# Altium schematic symbol library SCH - MCU - ATSAM - MICROCHIP ATSAME70Q19A-CFN UFBGA144.SchLib: 1 symbol
Pins are listed as number, name and electrical type; pins without a type are passive.

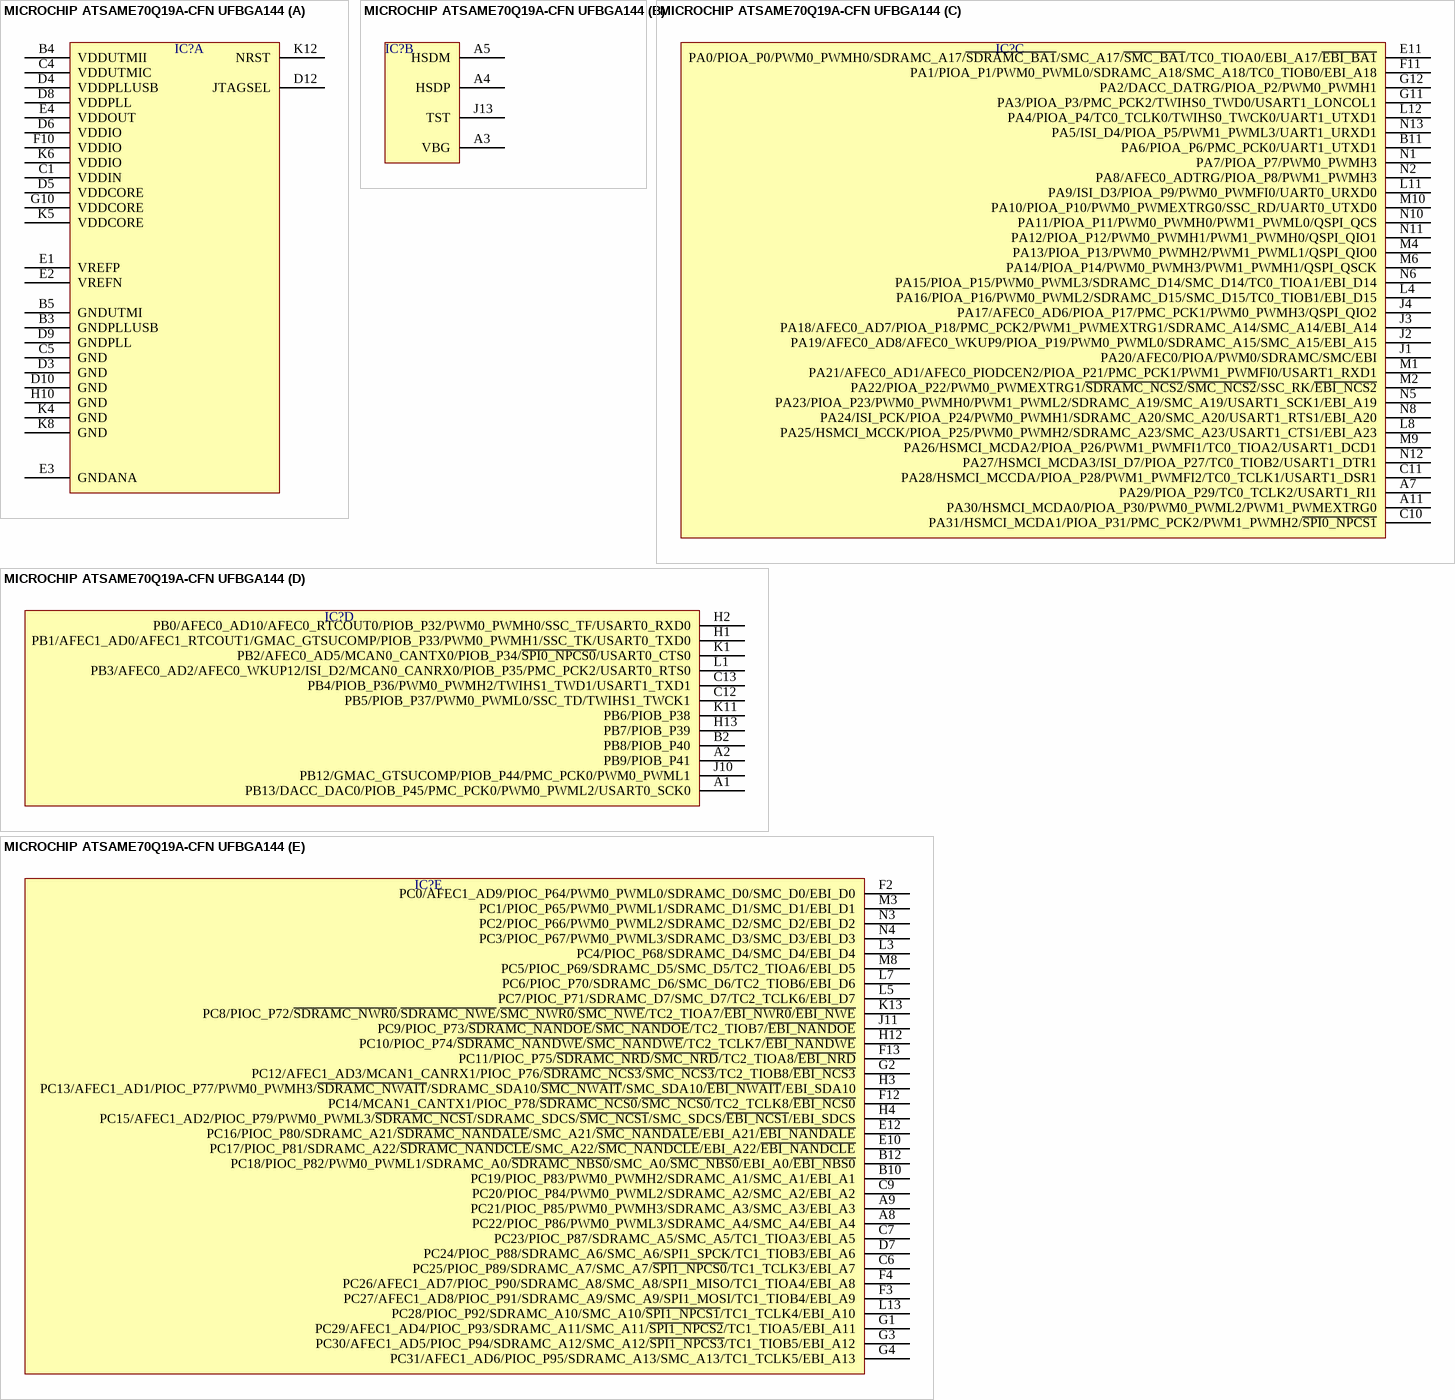
[diagram p0: symbol MICROCHIP ATSAME70Q19A-CFN UFBGA144]

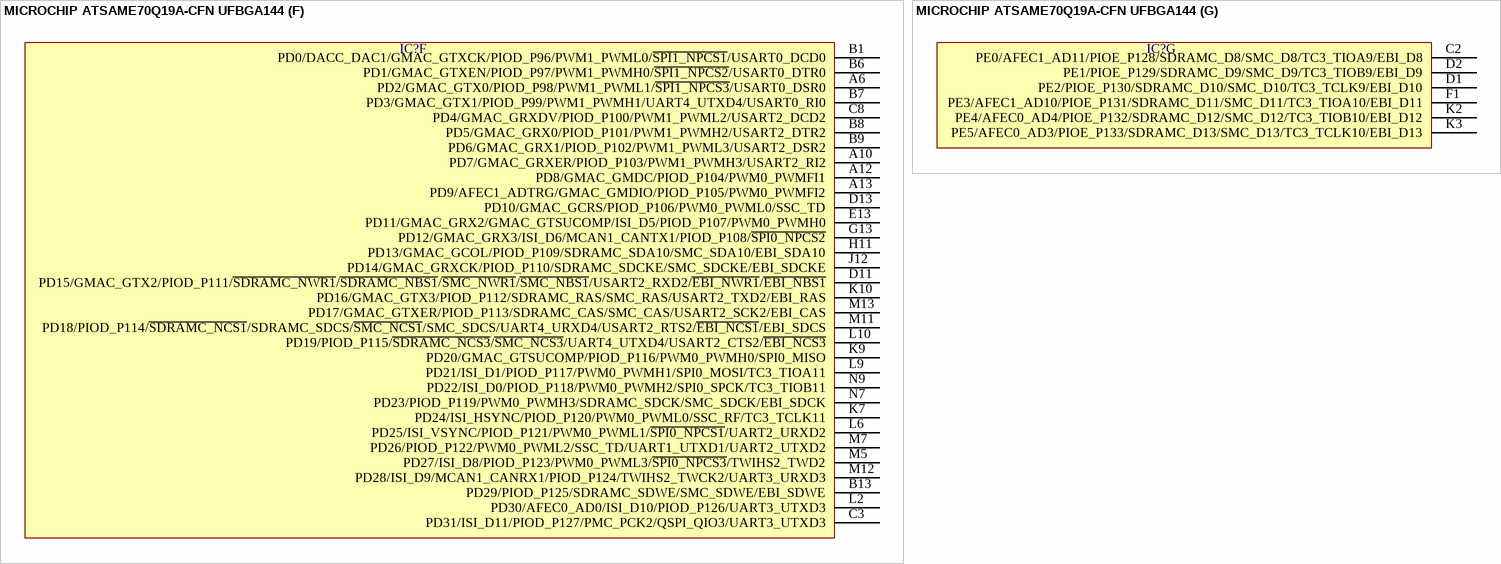
[diagram p1: symbol MICROCHIP ATSAME70Q19A-CFN UFBGA144]

## MICROCHIP ATSAME70Q19A-CFN UFBGA144
designator IC?  (value not drawn)
part A pins: B3 GNDPLLUSB, B4 VDDUTMII, B5 GNDUTMI, C1 VDDIN, C4 VDDUTMIC, C5 GND, D3 GND, D4 VDDPLLUSB, D5 VDDCORE, D6 VDDIO, D8 VDDPLL, D9 GNDPLL, D10 GND, D12 JTAGSEL, E1 VREFP, E2 VREFN, E3 GNDANA, E4 VDDOUT, F10 VDDIO, G10 VDDCORE, H10 GND, K4 GND, K5 VDDCORE, K6 VDDIO, K8 GND, K12 NRST
part B pins: A3 VBG, A4 HSDP, A5 HSDM, J13 TST
part C pins: A7 PA29/PIOA_P29/TC0_TCLK2/USART1_RI1, A11 PA30/HSMCI_MCDA0/PIOA_P30/PWM0_PWML2/PWM1_PWMEXTRG0, B11 PA6/PIOA_P6/PMC_PCK0/UART1_UTXD1, C10 PA31/HSMCI_MCDA1/PIOA_P31/PMC_PCK2/PWM1_PWMH2/~{SPI0_NPCS1}, C11 PA28/HSMCI_MCCDA/PIOA_P28/PWM1_PWMFI2/TC0_TCLK1/USART1_DSR1, E11 PA0/PIOA_P0/PWM0_PWMH0/SDRAMC_A17/~{SDRAMC_BA1}/SMC_A17/~{SMC_BA1}/TC0_TIOA0/EBI_A17/~{EBI_BA1}, F11 PA1/PIOA_P1/PWM0_PWML0/SDRAMC_A18/SMC_A18/TC0_TIOB0/EBI_A18, G11 PA3/PIOA_P3/PMC_PCK2/TWIHS0_TWD0/USART1_LONCOL1, G12 PA2/DACC_DATRG/PIOA_P2/PWM0_PWMH1, J1 PA20/AFEC0/PIOA/PWM0/SDRAMC/SMC/EBI, J2 PA19/AFEC0_AD8/AFEC0_WKUP9/PIOA_P19/PWM0_PWML0/SDRAMC_A15/SMC_A15/EBI_A15, J3 PA18/AFEC0_AD7/PIOA_P18/PMC_PCK2/PWM1_PWMEXTRG1/SDRAMC_A14/SMC_A14/EBI_A14, J4 PA17/AFEC0_AD6/PIOA_P17/PMC_PCK1/PWM0_PWMH3/QSPI_QIO2, L4 PA16/PIOA_P16/PWM0_PWML2/SDRAMC_D15/SMC_D15/TC0_TIOB1/EBI_D15, L8 PA25/HSMCI_MCCK/PIOA_P25/PWM0_PWMH2/SDRAMC_A23/SMC_A23/USART1_CTS1/EBI_A23, L11 PA9/ISI_D3/PIOA_P9/PWM0_PWMFI0/UART0_URXD0, L12 PA4/PIOA_P4/TC0_TCLK0/TWIHS0_TWCK0/UART1_UTXD1, M1 PA21/AFEC0_AD1/AFEC0_PIODCEN2/PIOA_P21/PMC_PCK1/PWM1_PWMFI0/USART1_RXD1, M2 PA22/PIOA_P22/PWM0_PWMEXTRG1/~{SDRAMC_NCS2}/~{SMC_NCS2}/SSC_RK/~{EBI_NCS2}, M4 PA13/PIOA_P13/PWM0_PWMH2/PWM1_PWML1/QSPI_QIO0, M6 PA14/PIOA_P14/PWM0_PWMH3/PWM1_PWMH1/QSPI_QSCK, M9 PA26/HSMCI_MCDA2/PIOA_P26/PWM1_PWMFI1/TC0_TIOA2/USART1_DCD1, M10 PA10/PIOA_P10/PWM0_PWMEXTRG0/SSC_RD/UART0_UTXD0, N1 PA7/PIOA_P7/PWM0_PWMH3, N2 PA8/AFEC0_ADTRG/PIOA_P8/PWM1_PWMH3, N5 PA23/PIOA_P23/PWM0_PWMH0/PWM1_PWML2/SDRAMC_A19/SMC_A19/USART1_SCK1/EBI_A19, N6 PA15/PIOA_P15/PWM0_PWML3/SDRAMC_D14/SMC_D14/TC0_TIOA1/EBI_D14, N8 PA24/ISI_PCK/PIOA_P24/PWM0_PWMH1/SDRAMC_A20/SMC_A20/USART1_RTS1/EBI_A20, N10 PA11/PIOA_P11/PWM0_PWMH0/PWM1_PWML0/QSPI_QCS, N11 PA12/PIOA_P12/PWM0_PWMH1/PWM1_PWMH0/QSPI_QIO1, N12 PA27/HSMCI_MCDA3/ISI_D7/PIOA_P27/TC0_TIOB2/USART1_DTR1, N13 PA5/ISI_D4/PIOA_P5/PWM1_PWML3/UART1_URXD1
part D pins: A1 PB13/DACC_DAC0/PIOB_P45/PMC_PCK0/PWM0_PWML2/USART0_SCK0, A2 PB9/PIOB_P41, B2 PB8/PIOB_P40, C12 PB5/PIOB_P37/PWM0_PWML0/SSC_TD/TWIHS1_TWCK1, C13 PB4/PIOB_P36/PWM0_PWMH2/TWIHS1_TWD1/USART1_TXD1, H1 PB1/AFEC1_AD0/AFEC1_RTCOUT1/GMAC_GTSUCOMP/PIOB_P33/PWM0_PWMH1/SSC_TK/USART0_TXD0, H2 PB0/AFEC0_AD10/AFEC0_RTCOUT0/PIOB_P32/PWM0_PWMH0/SSC_TF/USART0_RXD0, H13 PB7/PIOB_P39, J10 PB12/GMAC_GTSUCOMP/PIOB_P44/PMC_PCK0/PWM0_PWML1, K1 PB2/AFEC0_AD5/MCAN0_CANTX0/PIOB_P34/~{SPI0_NPCS0}/USART0_CTS0, K11 PB6/PIOB_P38, L1 PB3/AFEC0_AD2/AFEC0_WKUP12/ISI_D2/MCAN0_CANRX0/PIOB_P35/PMC_PCK2/USART0_RTS0
part E pins: A8 PC22/PIOC_P86/PWM0_PWML3/SDRAMC_A4/SMC_A4/EBI_A4, A9 PC21/PIOC_P85/PWM0_PWMH3/SDRAMC_A3/SMC_A3/EBI_A3, B10 PC19/PIOC_P83/PWM0_PWMH2/SDRAMC_A1/SMC_A1/EBI_A1, B12 PC18/PIOC_P82/PWM0_PWML1/SDRAMC_A0/~{SDRAMC_NBS0}/SMC_A0/~{SMC_NBS0}/EBI_A0/~{EBI_NBS0}, C6 PC25/PIOC_P89/SDRAMC_A7/SMC_A7/~{SPI1_NPCS0}/TC1_TCLK3/EBI_A7, C7 PC23/PIOC_P87/SDRAMC_A5/SMC_A5/TC1_TIOA3/EBI_A5, C9 PC20/PIOC_P84/PWM0_PWML2/SDRAMC_A2/SMC_A2/EBI_A2, D7 PC24/PIOC_P88/SDRAMC_A6/SMC_A6/SPI1_SPCK/TC1_TIOB3/EBI_A6, E10 PC17/PIOC_P81/SDRAMC_A22/~{SDRAMC_NANDCLE}/SMC_A22/~{SMC_NANDCLE}/EBI_A22/~{EBI_NANDCLE}, E12 PC16/PIOC_P80/SDRAMC_A21/~{SDRAMC_NANDALE}/SMC_A21/~{SMC_NANDALE}/EBI_A21/~{EBI_NANDALE}, F2 PC0/AFEC1_AD9/PIOC_P64/PWM0_PWML0/SDRAMC_D0/SMC_D0/EBI_D0, F3 PC27/AFEC1_AD8/PIOC_P91/SDRAMC_A9/SMC_A9/SPI1_MOSI/TC1_TIOB4/EBI_A9, F4 PC26/AFEC1_AD7/PIOC_P90/SDRAMC_A8/SMC_A8/SPI1_MISO/TC1_TIOA4/EBI_A8, F12 PC14/MCAN1_CANTX1/PIOC_P78/~{SDRAMC_NCS0}/~{SMC_NCS0}/TC2_TCLK8/~{EBI_NCS0}, F13 PC11/PIOC_P75/~{SDRAMC_NRD}/~{SMC_NRD}/TC2_TIOA8/~{EBI_NRD}, G1 PC29/AFEC1_AD4/PIOC_P93/SDRAMC_A11/SMC_A11/~{SPI1_NPCS2}/TC1_TIOA5/EBI_A11, G2 PC12/AFEC1_AD3/MCAN1_CANRX1/PIOC_P76/~{SDRAMC_NCS3}/~{SMC_NCS3}/TC2_TIOB8/~{EBI_NCS3}, G3 PC30/AFEC1_AD5/PIOC_P94/SDRAMC_A12/SMC_A12/~{SPI1_NPCS3}/TC1_TIOB5/EBI_A12, G4 PC31/AFEC1_AD6/PIOC_P95/SDRAMC_A13/SMC_A13/TC1_TCLK5/EBI_A13, H3 PC13/AFEC1_AD1/PIOC_P77/PWM0_PWMH3/~{SDRAMC_NWAIT}/SDRAMC_SDA10/~{SMC_NWAIT}/SMC_SDA10/~{EBI_NWAIT}/EBI_SDA10, H4 PC15/AFEC1_AD2/PIOC_P79/PWM0_PWML3/~{SDRAMC_NCS1}/SDRAMC_SDCS/~{SMC_NCS1}/SMC_SDCS/~{EBI_NCS1}/EBI_SDCS, H12 PC10/PIOC_P74/~{SDRAMC_NANDWE}/~{SMC_NANDWE}/TC2_TCLK7/~{EBI_NANDWE}, J11 PC9/PIOC_P73/~{SDRAMC_NANDOE}/~{SMC_NANDOE}/TC2_TIOB7/~{EBI_NANDOE}, K13 PC8/PIOC_P72/~{SDRAMC_NWR0}/~{SDRAMC_NWE}/~{SMC_NWR0}/~{SMC_NWE}/TC2_TIOA7/~{EBI_NWR0}/~{EBI_NWE}, L3 PC4/PIOC_P68/SDRAMC_D4/SMC_D4/EBI_D4, L5 PC7/PIOC_P71/SDRAMC_D7/SMC_D7/TC2_TCLK6/EBI_D7, L7 PC6/PIOC_P70/SDRAMC_D6/SMC_D6/TC2_TIOB6/EBI_D6, L13 PC28/PIOC_P92/SDRAMC_A10/SMC_A10/~{SPI1_NPCS1}/TC1_TCLK4/EBI_A10, M3 PC1/PIOC_P65/PWM0_PWML1/SDRAMC_D1/SMC_D1/EBI_D1, M8 PC5/PIOC_P69/SDRAMC_D5/SMC_D5/TC2_TIOA6/EBI_D5, N3 PC2/PIOC_P66/PWM0_PWML2/SDRAMC_D2/SMC_D2/EBI_D2, N4 PC3/PIOC_P67/PWM0_PWML3/SDRAMC_D3/SMC_D3/EBI_D3
part F pins: A6 PD2/GMAC_GTX0/PIOD_P98/PWM1_PWML1/~{SPI1_NPCS3}/USART0_DSR0, A10 PD7/GMAC_GRXER/PIOD_P103/PWM1_PWMH3/USART2_RI2, A12 PD8/GMAC_GMDC/PIOD_P104/PWM0_PWMFI1, A13 PD9/AFEC1_ADTRG/GMAC_GMDIO/PIOD_P105/PWM0_PWMFI2, B1 PD0/DACC_DAC1/GMAC_GTXCK/PIOD_P96/PWM1_PWML0/~{SPI1_NPCS1}/USART0_DCD0, B6 PD1/GMAC_GTXEN/PIOD_P97/PWM1_PWMH0/~{SPI1_NPCS2}/USART0_DTR0, B7 PD3/GMAC_GTX1/PIOD_P99/PWM1_PWMH1/UART4_UTXD4/USART0_RI0, B8 PD5/GMAC_GRX0/PIOD_P101/PWM1_PWMH2/USART2_DTR2, B9 PD6/GMAC_GRX1/PIOD_P102/PWM1_PWML3/USART2_DSR2, B13 PD29/PIOD_P125/SDRAMC_SDWE/SMC_SDWE/EBI_SDWE, C3 PD31/ISI_D11/PIOD_P127/PMC_PCK2/QSPI_QIO3/UART3_UTXD3, C8 PD4/GMAC_GRXDV/PIOD_P100/PWM1_PWML2/USART2_DCD2, D11 PD15/GMAC_GTX2/PIOD_P111/~{SDRAMC_NWR1}/~{SDRAMC_NBS1}/~{SMC_NWR1}/~{SMC_NBS1}/USART2_RXD2/~{EBI_NWR1}/~{EBI_NBS1}, D13 PD10/GMAC_GCRS/PIOD_P106/PWM0_PWML0/SSC_TD, E13 PD11/GMAC_GRX2/GMAC_GTSUCOMP/ISI_D5/PIOD_P107/PWM0_PWMH0, G13 PD12/GMAC_GRX3/ISI_D6/MCAN1_CANTX1/PIOD_P108/~{SPI0_NPCS2}, H11 PD13/GMAC_GCOL/PIOD_P109/SDRAMC_SDA10/SMC_SDA10/EBI_SDA10, J12 PD14/GMAC_GRXCK/PIOD_P110/SDRAMC_SDCKE/SMC_SDCKE/EBI_SDCKE, K7 PD24/ISI_HSYNC/PIOD_P120/PWM0_PWML0/SSC_RF/TC3_TCLK11, K9 PD20/GMAC_GTSUCOMP/PIOD_P116/PWM0_PWMH0/SPI0_MISO, K10 PD16/GMAC_GTX3/PIOD_P112/SDRAMC_RAS/SMC_RAS/USART2_TXD2/EBI_RAS, L2 PD30/AFEC0_AD0/ISI_D10/PIOD_P126/UART3_UTXD3, L6 PD25/ISI_VSYNC/PIOD_P121/PWM0_PWML1/~{SPI0_NPCS1}/UART2_URXD2, L9 PD21/ISI_D1/PIOD_P117/PWM0_PWMH1/SPI0_MOSI/TC3_TIOA11, L10 PD19/PIOD_P115/~{SDRAMC_NCS3}/~{SMC_NCS3}/UART4_UTXD4/USART2_CTS2/~{EBI_NCS3}, M5 PD27/ISI_D8/PIOD_P123/PWM0_PWML3/~{SPI0_NPCS3}/TWIHS2_TWD2, M7 PD26/PIOD_P122/PWM0_PWML2/SSC_TD/UART1_UTXD1/UART2_UTXD2, M11 PD18/PIOD_P114/~{SDRAMC_NCS1}/SDRAMC_SDCS/~{SMC_NCS1}/SMC_SDCS/UART4_URXD4/USART2_RTS2/~{EBI_NCS1}/EBI_SDCS, M12 PD28/ISI_D9/MCAN1_CANRX1/PIOD_P124/TWIHS2_TWCK2/UART3_URXD3, M13 PD17/GMAC_GTXER/PIOD_P113/SDRAMC_CAS/SMC_CAS/USART2_SCK2/EBI_CAS, N7 PD23/PIOD_P119/PWM0_PWMH3/SDRAMC_SDCK/SMC_SDCK/EBI_SDCK, N9 PD22/ISI_D0/PIOD_P118/PWM0_PWMH2/SPI0_SPCK/TC3_TIOB11
part G pins: C2 PE0/AFEC1_AD11/PIOE_P128/SDRAMC_D8/SMC_D8/TC3_TIOA9/EBI_D8, D1 PE2/PIOE_P130/SDRAMC_D10/SMC_D10/TC3_TCLK9/EBI_D10, D2 PE1/PIOE_P129/SDRAMC_D9/SMC_D9/TC3_TIOB9/EBI_D9, F1 PE3/AFEC1_AD10/PIOE_P131/SDRAMC_D11/SMC_D11/TC3_TIOA10/EBI_D11, K2 PE4/AFEC0_AD4/PIOE_P132/SDRAMC_D12/SMC_D12/TC3_TIOB10/EBI_D12, K3 PE5/AFEC0_AD3/PIOE_P133/SDRAMC_D13/SMC_D13/TC3_TCLK10/EBI_D13